# Altium schematic symbol library SW-SPDT.Schlib: 1 symbol
Pins are listed as number, name and electrical type; pins without a type are passive.

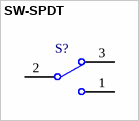
[diagram p0: symbol SW-SPDT]

## SW-SPDT
designator S?
SPDT Switch
pins: 1, 2, 3